# Altium schematic symbol library SCH - MCU - NUVOTON - NUVOTON M032TD2AE.SchLib: 1 symbol
Pins are listed as number, name and electrical type; pins without a type are passive.

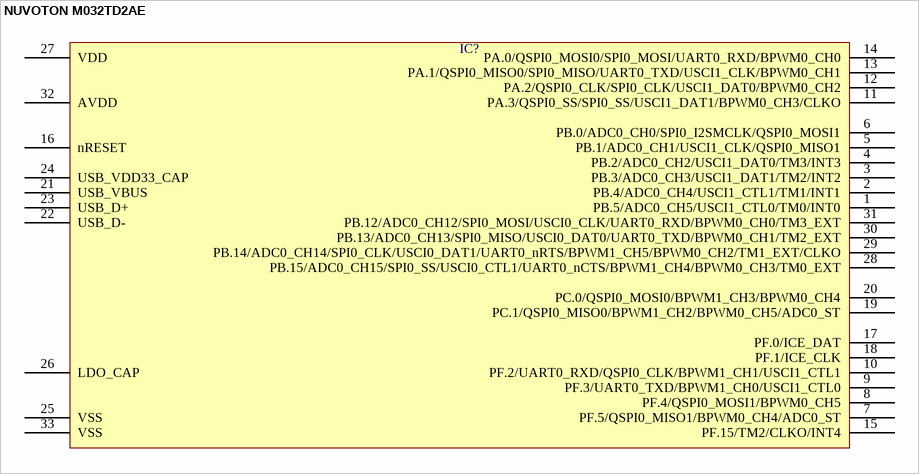
[diagram p0: symbol NUVOTON M032TD2AE]

## NUVOTON M032TD2AE
designator IC?  (value not drawn)
pins: 1 PB.5/ADC0_CH5/USCI1_CTL0/TM0/INT0, 2 PB.4/ADC0_CH4/USCI1_CTL1/TM1/INT1, 3 PB.3/ADC0_CH3/USCI1_DAT1/TM2/INT2, 4 PB.2/ADC0_CH2/USCI1_DAT0/TM3/INT3, 5 PB.1/ADC0_CH1/USCI1_CLK/QSPI0_MISO1, 6 PB.0/ADC0_CH0/SPI0_I2SMCLK/QSPI0_MOSI1, 7 PF.5/QSPI0_MISO1/BPWM0_CH4/ADC0_ST, 8 PF.4/QSPI0_MOSI1/BPWM0_CH5, 9 PF.3/UART0_TXD/BPWM1_CH0/USCI1_CTL0, 10 PF.2/UART0_RXD/QSPI0_CLK/BPWM1_CH1/USCI1_CTL1, 11 PA.3/QSPI0_SS/SPI0_SS/USCI1_DAT1/BPWM0_CH3/CLKO, 12 PA.2/QSPI0_CLK/SPI0_CLK/USCI1_DAT0/BPWM0_CH2, 13 PA.1/QSPI0_MISO0/SPI0_MISO/UART0_TXD/USCI1_CLK/BPWM0_CH1, 14 PA.0/QSPI0_MOSI0/SPI0_MOSI/UART0_RXD/BPWM0_CH0, 15 PF.15/TM2/CLKO/INT4, 16 nRESET, 17 PF.0/ICE_DAT, 18 PF.1/ICE_CLK, 19 PC.1/QSPI0_MISO0/BPWM1_CH2/BPWM0_CH5/ADC0_ST, 20 PC.0/QSPI0_MOSI0/BPWM1_CH3/BPWM0_CH4, 21 USB_VBUS, 22 USB_D-, 23 USB_D+, 24 USB_VDD33_CAP, 25 VSS, 26 LDO_CAP, 27 VDD, 28 PB.15/ADC0_CH15/SPI0_SS/USCI0_CTL1/UART0_nCTS/BPWM1_CH4/BPWM0_CH3/TM0_EXT, 29 PB.14/ADC0_CH14/SPI0_CLK/USCI0_DAT1/UART0_nRTS/BPWM1_CH5/BPWM0_CH2/TM1_EXT/CLKO, 30 PB.13/ADC0_CH13/SPI0_MISO/USCI0_DAT0/UART0_TXD/BPWM0_CH1/TM2_EXT, 31 PB.12/ADC0_CH12/SPI0_MOSI/USCI0_CLK/UART0_RXD/BPWM0_CH0/TM3_EXT, 32 AVDD, 33 VSS